# EAGLE library part SN74HC595 (library PP_DigitalIC)
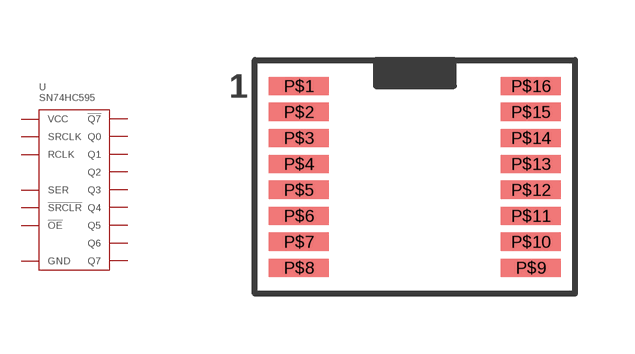
[diagram p41: symbol with the pads of SN74HC595_TSSOP-16; footprint SN74HC595_TSSOP-16]

Designator prefix U

## SN74HC595PWR  [SN74HC595_TSSOP-16]
P$1  Q1
P$2  Q2
P$3  Q3
P$4  Q4
P$5  Q5
P$6  Q6
P$7  Q7
P$8  GND
P$9  Q7S
P$10  MR
P$11  SHCP
P$12  STCP
P$13  OE
P$14  DS
P$15  Q0
P$16  VCC

## Footprint SN74HC595_TSSOP-16 (pad centres in mm)
smd 1.5 x 0.45: P$1 -2.9,2.275; P$2 -2.9,1.625; P$3 -2.9,0.975; P$4 -2.9,0.325; P$5 -2.9,-0.325; P$6 -2.9,-0.975; P$7 -2.9,-1.625; P$8 -2.9,-2.275; P$9 2.9,-2.275; P$10 2.9,-1.625; P$11 2.9,-0.975; P$12 2.9,-0.325; P$13 2.9,0.325; P$14 2.9,0.975; P$15 2.9,1.625; P$16 2.9,2.275